# Altium schematic symbol library SS36_Shottky.SchLib: 1 symbol
Pins are listed as number, name and electrical type; pins without a type are passive.

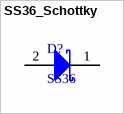
[diagram p0: symbol SS36_Schottky]

## SS36_Schottky
designator D?, comment SS36
footprint SMC/DO214AB
pins: 1 K, 2 A